# EAGLE library part PINHD-2X17 (library pinhead-1)
PIN HEADER
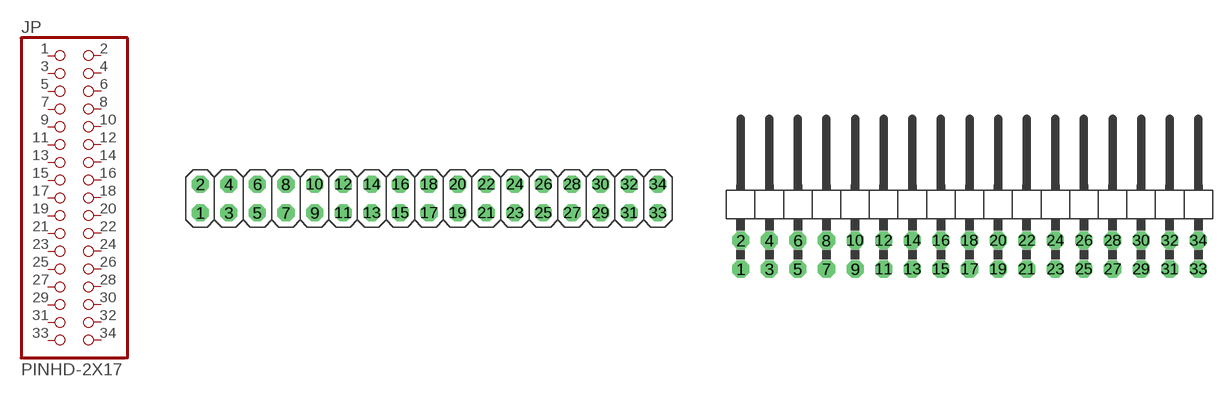
[diagram p39: symbol with the pads of 2X17; footprints 2X17, 2X17/90]

Designator prefix JP

## PINHD-2X17_2.54  [2X17]
1  1  pas
2  2  pas
3  3  pas
4  4  pas
5  5  pas
6  6  pas
7  7  pas
8  8  pas
9  9  pas
10  10  pas
11  11  pas
12  12  pas
13  13  pas
14  14  pas
15  15  pas
16  16  pas
17  17  pas
18  18  pas
19  19  pas
20  20  pas
21  21  pas
22  22  pas
23  23  pas
24  24  pas
25  25  pas
26  26  pas
27  27  pas
28  28  pas
29  29  pas
30  30  pas
31  31  pas
32  32  pas
33  33  pas
34  34  pas

## PINHD-2X17_2.54-90°  [2X17/90]
Pads as for 2X17

## PINHD-2X17_2.00  [2X17M]
Pads as for 2X17

## PINHD-2X17_2.54-SMD  [2X17SMD]
Pads as for 2X17

## PINHD-2X17_2.54-SMD-90°  [2X17SMD/90]
Pads as for 2X17

## Footprint 2X17 (pad centres in mm)
PIN HEADER - 2.54
drill 1.016 octagon: 1 -20.32,-1.27; 2 -20.32,1.27; 3 -17.78,-1.27; 4 -17.78,1.27; 5 -15.24,-1.27; 6 -15.24,1.27; 7 -12.7,-1.27; 8 -12.7,1.27; 9 -10.16,-1.27; 10 -10.16,1.27; 11 -7.62,-1.27; 12 -7.62,1.27; 13 -5.08,-1.27; 14 -5.08,1.27; 15 -2.54,-1.27; 16 -2.54,1.27; 17 0,-1.27; 18 0,1.27; 19 2.54,-1.27; 20 2.54,1.27; 21 5.08,-1.27; 22 5.08,1.27; 23 7.62,-1.27; 24 7.62,1.27; 25 10.16,-1.27; 26 10.16,1.27; 27 12.7,-1.27; 28 12.7,1.27; 29 15.24,-1.27; 30 15.24,1.27; 31 17.78,-1.27; 32 17.78,1.27; 33 20.32,-1.27; 34 20.32,1.27

## Footprint 2X17/90 (pad centres in mm)
PIN HEADER - 2.54 90°
drill 1.016 octagon: 1 -20.32,-6.35; 2 -20.32,-3.81; 3 -17.78,-6.35; 4 -17.78,-3.81; 5 -15.24,-6.35; 6 -15.24,-3.81; 7 -12.7,-6.35; 8 -12.7,-3.81; 9 -10.16,-6.35; 10 -10.16,-3.81; 11 -7.62,-6.35; 12 -7.62,-3.81; 13 -5.08,-6.35; 14 -5.08,-3.81; 15 -2.54,-6.35; 16 -2.54,-3.81; 17 0,-6.35; 18 0,-3.81; 19 2.54,-6.35; 20 2.54,-3.81; 21 5.08,-6.35; 22 5.08,-3.81; 23 7.62,-6.35; 24 7.62,-3.81; 25 10.16,-6.35; 26 10.16,-3.81; 27 12.7,-6.35; 28 12.7,-3.81; 29 15.24,-6.35; 30 15.24,-3.81; 31 17.78,-6.35; 32 17.78,-3.81; 33 20.32,-6.35; 34 20.32,-3.81

## Footprint 2X17M (pad centres in mm)
PIN HEADER - 2
drill 0.914 square: 1 -16,-1
drill 0.914 round: 2 -16,1; 3 -14,-1; 4 -14,1; 5 -12,-1; 6 -12,1; 7 -10,-1; 8 -10,1; 9 -8,-1; 10 -8,1; 11 -6,-1; 12 -6,1; 13 -4,-1; 14 -4,1; 15 -2,-1; 16 -2,1; 17 0,-1; 18 0,1; 19 2,-1; 20 2,1; 21 4,-1; 22 4,1; 23 6,-1; 24 6,1; 25 8,-1; 26 8,1; 27 10,-1; 28 10,1; 29 12,-1; 30 12,1; 31 14,-1; 32 14,1; 33 16,-1; 34 16,1

## Footprint 2X17SMD (pad centres in mm)
PIN HEADER - 2.54 SMD
smd 1.016 x 3.302: 1 -1.27,-3.81; 2 -1.27,1.27; 3 1.27,-3.81; 4 1.27,1.27; 5 3.81,-3.81; 6 3.81,1.27; 7 6.35,-3.81; 8 6.35,1.27; 9 8.89,-3.81; 10 8.89,1.27; 11 11.43,-3.81; 12 11.43,1.27; 13 13.97,-3.81; 14 13.97,1.27; 15 16.51,-3.81; 16 16.51,1.27; 17 19.05,-3.81; 18 19.05,1.27; 19 21.59,-3.81; 20 21.59,1.27; 21 24.13,-3.81; 22 24.13,1.27; 23 26.67,-3.81; 24 26.67,1.27; 25 29.21,-3.81; 26 29.21,1.27; 27 31.75,-3.81; 28 31.75,1.27; 29 34.29,-3.81; 30 34.29,1.27; 31 36.83,-3.81; 32 36.83,1.27; 33 39.37,-3.81; 34 39.37,1.27

## Footprint 2X17SMD/90 (pad centres in mm)
PIN HEADER - 2.54 90°
smd 1.016 x 1.778: 1 -1.27,-8.89; 2 -1.27,-5.08; 3 1.27,-8.89; 4 1.27,-5.08; 5 3.81,-8.89; 6 3.81,-5.08; 7 6.35,-8.89; 8 6.35,-5.08; 9 8.89,-8.89; 10 8.89,-5.08; 11 11.43,-8.89; 12 11.43,-5.08; 13 13.97,-8.89; 14 13.97,-5.08; 15 16.51,-8.89; 16 16.51,-5.08; 17 19.05,-8.89; 18 19.05,-5.08; 19 21.59,-8.89; 20 21.59,-5.08; 21 24.13,-8.89; 22 24.13,-5.08; 23 26.67,-8.89; 24 26.67,-5.08; 25 29.21,-8.89; 26 29.21,-5.08; 27 31.75,-8.89; 28 31.75,-5.08; 29 34.29,-8.89; 30 34.29,-5.08; 31 36.83,-8.89; 32 36.83,-5.08; 33 39.37,-8.89; 34 39.37,-5.08